# Altium footprint library PAL.PcbLib: 271 footprints (part 3 of 17)
Each footprint in its own frame and in the unit in brackets; x right, y up, seen from the top. Pads: shape width x height; smd on the part's side, far side on the other; paste and mask are expansions set on the pad; w line width, h text height; cw(c..) or ccw(c..) is an arc to the next point about the centre after c.
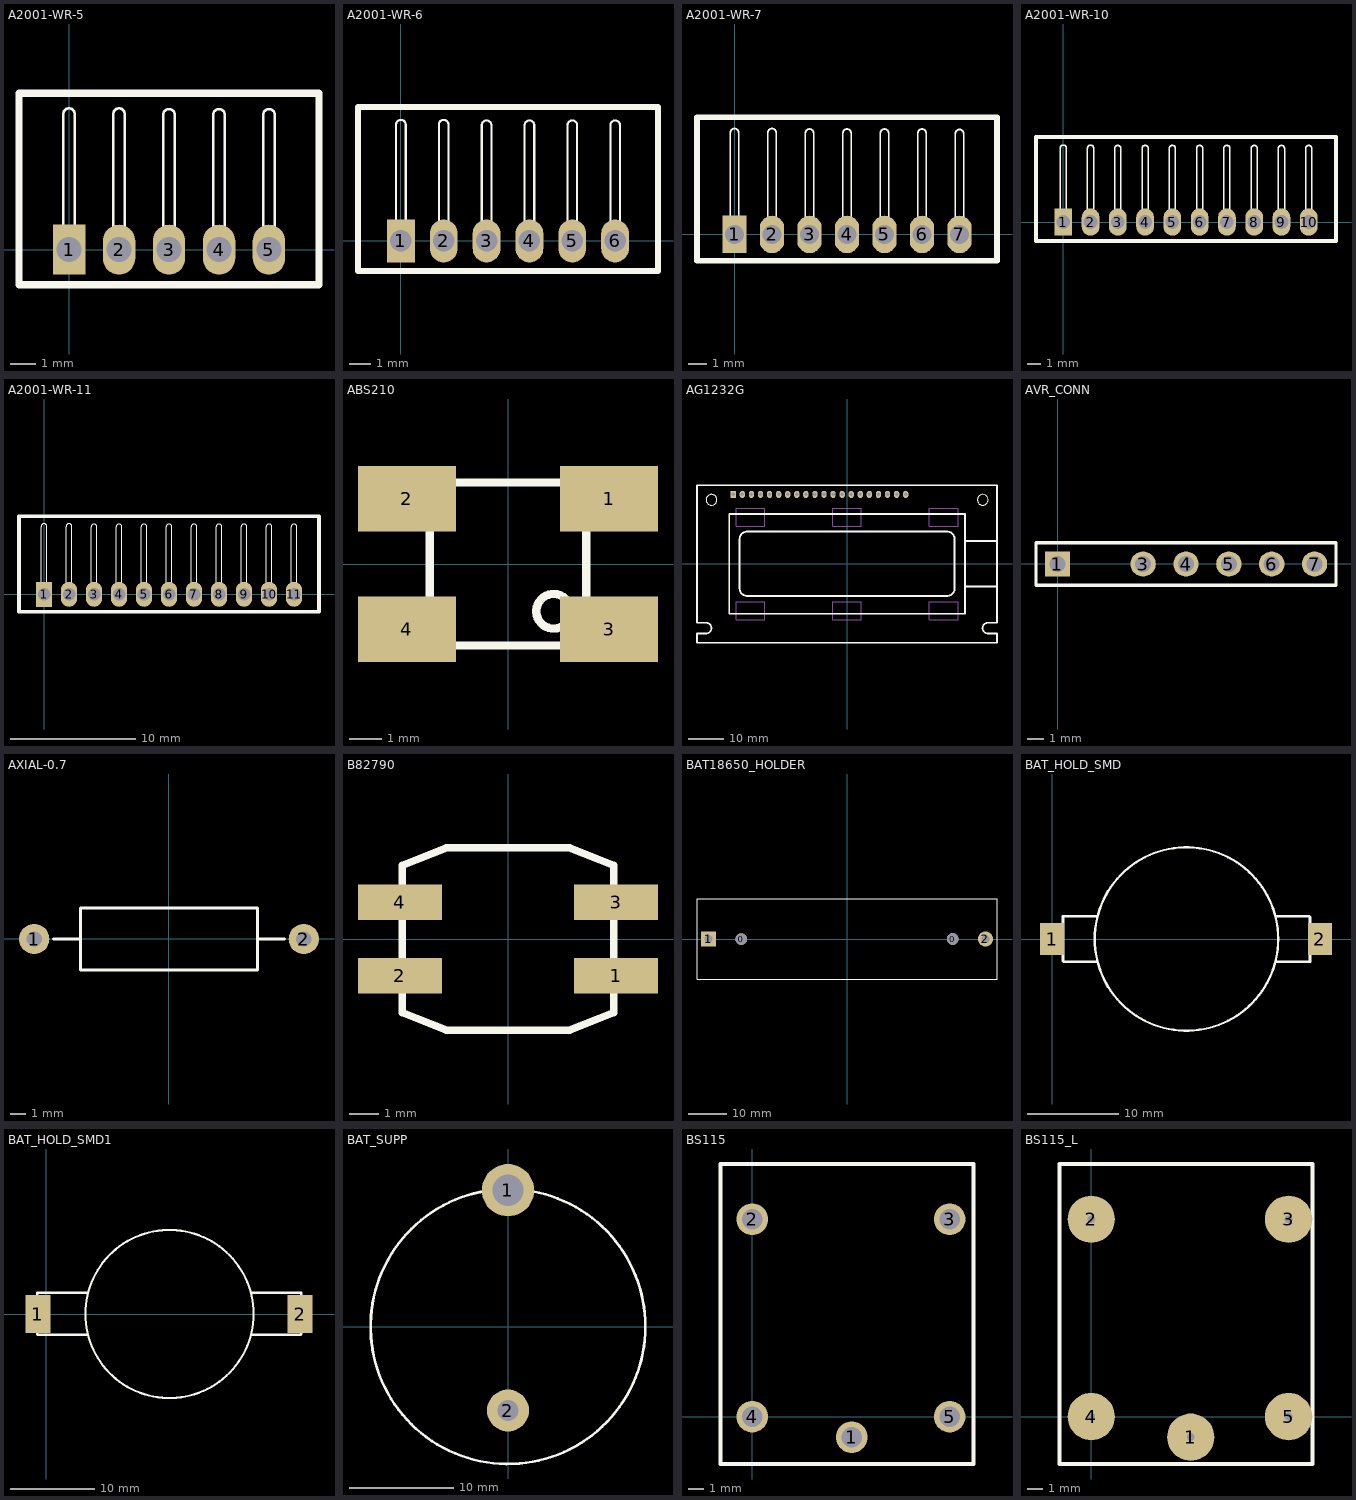
[diagram p2: the footprints below, top view; thin cyan lines are the x and y axes]

## A2001-WR-5 [mm]
pads (5):
  rect 1.3x2 on Top hole 1: 1(0,0)
  oval 1.3x2 on Top hole 1: 2(2,0) 3(4,0) 4(6,0) 5(8,0)
Top Overlay:
  lines w0.1: -0.225,0.025 -0.225,5.425 cw(c0,5.425) 0,5.65 cw(c0,5.425) 0.225,5.425 0.225,0.025 ccw(c0.25,0.025) 0.25,0 ; 1.775,0.025 1.775,5.425 cw(c2,5.425) 2,5.65 cw(c2,5.425) 2.225,5.425 2.225,0.025 ; 3.775,0 3.775,5.4 cw(c4,5.4) 4,5.625 cw(c4,5.4) 4.225,5.4 4.225,0 ; 5.775,0 5.775,5.4 cw(c6,5.4) 6,5.625 cw(c6,5.4) 6.225,5.4 6.225,0 ; 7.775,0 7.775,5.4 cw(c8,5.4) 8,5.625 cw(c8,5.4) 8.225,5.4 8.225,0
  lines w0.3: -2,-1.4 -2,6.25 10,6.25 10,-1.4 -2,-1.4

## A2001-WR-6 [mm]
pads (6):
  rect 1.3x2 on Top hole 1: 1(0,0)
  oval 1.3x2 on Top hole 1: 2(2,0) 3(4,0) 4(6,0) 5(8,0) 6(10,0)
Top Overlay:
  lines w0.1: -0.225,0.025 -0.225,5.425 cw(c0,5.425) 0,5.65 cw(c0,5.425) 0.225,5.425 0.225,0.025 ccw(c0.25,0.025) 0.25,0 ; 1.775,0.025 1.775,5.425 cw(c2,5.425) 2,5.65 cw(c2,5.425) 2.225,5.425 2.225,0.025 ; 3.775,0 3.775,5.4 cw(c4,5.4) 4,5.625 cw(c4,5.4) 4.225,5.4 4.225,0 ; 5.775,0 5.775,5.4 cw(c6,5.4) 6,5.625 cw(c6,5.4) 6.225,5.4 6.225,0 ; 7.775,0 7.775,5.4 cw(c8,5.4) 8,5.625 cw(c8,5.4) 8.225,5.4 8.225,0 ; 9.775,0 9.775,5.4 cw(c10,5.4) 10,5.625 cw(c10,5.4) 10.225,5.4 10.225,0
  lines w0.3: -2,-1.4 12,-1.4 12,6.25 -2,6.25 -2,-1.4

## A2001-WR-7 [mm]
pads (7):
  rect 1.3x2 on Top hole 1: 1(0,0)
  oval 1.3x2 on Top hole 1: 2(2,0) 3(4,0) 4(6,0) 5(8,0) 6(10,0) 7(12,0)
Top Overlay:
  lines w0.1: -0.225,0.025 -0.225,5.425 cw(c0,5.425) 0,5.65 cw(c0,5.425) 0.225,5.425 0.225,0.025 ccw(c0.25,0.025) 0.25,0 ; 1.775,0.025 1.775,5.425 cw(c2,5.425) 2,5.65 cw(c2,5.425) 2.225,5.425 2.225,0.025 ; 3.775,0 3.775,5.4 cw(c4,5.4) 4,5.625 cw(c4,5.4) 4.225,5.4 4.225,0 ; 5.775,0 5.775,5.4 cw(c6,5.4) 6,5.625 cw(c6,5.4) 6.225,5.4 6.225,0 ; 7.775,0 7.775,5.4 cw(c8,5.4) 8,5.625 cw(c8,5.4) 8.225,5.4 8.225,0 ; 9.775,0 9.775,5.4 cw(c10,5.4) 10,5.625 cw(c10,5.4) 10.225,5.4 10.225,0 ; 11.775,-0.025 11.775,5.375 cw(c12,5.375) 12,5.6 cw(c12,5.375) 12.225,5.375 12.225,-0.025
  lines w0.3: -2,-1.4 -2,6.25 14,6.25 14,-1.4 -2,-1.4

## A2001-WR-10 [mm]
pads (10):
  rect 1.3x2 on Top hole 1: 1(0,0)
  oval 1.3x2 on Top hole 1: 2(2,0) 3(4,0) 4(6,0) 5(8,0) 6(10,0) 7(12,0) 8(14,0) 9(16,0) 10(18,0)
Top Overlay:
  lines w0.1: -0.225,0.025 -0.225,5.425 cw(c0,5.425) 0,5.65 cw(c0,5.425) 0.225,5.425 0.225,0.025 ccw(c0.25,0.025) 0.25,0 ; 1.775,0.025 1.775,5.425 cw(c2,5.425) 2,5.65 cw(c2,5.425) 2.225,5.425 2.225,0.025 ; 3.775,0 3.775,5.4 cw(c4,5.4) 4,5.625 cw(c4,5.4) 4.225,5.4 4.225,0 ; 5.775,0 5.775,5.4 cw(c6,5.4) 6,5.625 cw(c6,5.4) 6.225,5.4 6.225,0 ; 7.775,0 7.775,5.4 cw(c8,5.4) 8,5.625 cw(c8,5.4) 8.225,5.4 8.225,0 ; 9.775,0 9.775,5.4 cw(c10,5.4) 10,5.625 cw(c10,5.4) 10.225,5.4 10.225,0 ; 11.775,0 11.775,5.4 cw(c12,5.4) 12,5.625 cw(c12,5.4) 12.225,5.4 12.225,0 ; 13.775,0 13.775,5.4 cw(c14,5.4) 14,5.625 cw(c14,5.4) 14.225,5.4 14.225,0 ; 15.775,0 15.775,5.4 cw(c16,5.4) 16,5.625 cw(c16,5.4) 16.225,5.4 16.225,0 ; 17.775,0 17.775,5.4 cw(c18,5.4) 18,5.625 cw(c18,5.4) 18.225,5.4 18.225,0
  lines w0.3: -2,-1.4 -2,6.25 20,6.25 20,-1.4 -2,-1.4

## A2001-WR-11 [mm]
pads (11):
  rect 1.3x2 on Top hole 1: 1(0,0)
  oval 1.3x2 on Top hole 1: 2(2,0) 3(4,0) 4(6,0) 5(8,0) 6(10,0) 7(12,0) 8(14,0) 9(16,0) 10(18,0) 11(20,0)
Top Overlay:
  lines w0.1: -0.225,0.025 -0.225,5.425 cw(c0,5.425) 0,5.65 cw(c0,5.425) 0.225,5.425 0.225,0.025 ccw(c0.25,0.025) 0.25,0 ; 1.775,0.025 1.775,5.425 cw(c2,5.425) 2,5.65 cw(c2,5.425) 2.225,5.425 2.225,0.025 ; 3.775,0 3.775,5.4 cw(c4,5.4) 4,5.625 cw(c4,5.4) 4.225,5.4 4.225,0 ; 5.775,0 5.775,5.4 cw(c6,5.4) 6,5.625 cw(c6,5.4) 6.225,5.4 6.225,0 ; 7.775,0 7.775,5.4 cw(c8,5.4) 8,5.625 cw(c8,5.4) 8.225,5.4 8.225,0 ; 9.775,0 9.775,5.4 cw(c10,5.4) 10,5.625 cw(c10,5.4) 10.225,5.4 10.225,0 ; 11.775,0 11.775,5.4 cw(c12,5.4) 12,5.625 cw(c12,5.4) 12.225,5.4 12.225,0 ; 13.775,0 13.775,5.4 cw(c14,5.4) 14,5.625 cw(c14,5.4) 14.225,5.4 14.225,0 ; 15.775,0 15.775,5.4 cw(c16,5.4) 16,5.625 cw(c16,5.4) 16.225,5.4 16.225,0 ; 17.775,0 17.775,5.4 cw(c18,5.4) 18,5.625 cw(c18,5.4) 18.225,5.4 18.225,0 ; 19.775,0 19.775,5.4 cw(c20,5.4) 20,5.625 cw(c20,5.4) 20.225,5.4 20.225,0
  lines w0.3: -2,-1.4 22,-1.4 22,6.25 -2,6.25 -2,-1.4

## ABS210 [mm]
pads (4):
  rect 3x2 smd: 1(3.1,2) 2(-3.1,2) 3(3.1,-2) 4(-3.1,-2)
Top Overlay:
  circle w0.254: c1.4,-1.45 r0.532
  lines w0.254: -2.4,-2.5 -2.4,0 -2.4,2.5 0,2.5 2.4,2.5 2.4,0 2.4,-2.5 0,-2.5 -2.4,-2.5

## AG1232G [mm]
pads (20):
  rect 1.5x2 on Top hole 1: 1(-31.872,19.422)
  oval 1.5x2 on Top hole 1: 2(-29.332,19.422) 3(-26.792,19.422) 4(-24.252,19.422) 5(-21.712,19.422) 6(-19.172,19.422) 7(-16.632,19.422) 8(-14.092,19.422) 9(-11.552,19.422) 10(-9.012,19.422) 11(-6.472,19.422) 12(-3.932,19.422) 13(-1.392,19.422) 14(1.148,19.422) 15(3.688,19.422) 16(6.228,19.422) 17(8.768,19.422) 18(11.308,19.422) 19(13.848,19.422) 20(16.388,19.422)
Top Overlay:
  circle w0.5: c-27.935,-9.026 r0
  circle w0.254: c37.978,17.898 r1.5
  circle w0.254: c-37.968,17.898 r1.5
  lines w0.48: -39.492,-19.543 ccw(c-39.492,-18.043) -39.492,-16.543 ; 39.428,-19.543 cw(c39.428,-18.043) 39.428,-16.543
  lines w0.5: -42.008,-19.543 -42.032,-19.567 ; -39.516,-19.567 -42.032,-19.567 ; -39.492,-16.543 -42.008,-16.543 -42.032,-16.519 -42.032,21.962 41.915,21.962 41.968,21.909 ; 33.025,-6.359 41.968,-6.359 ; 33.025,6.341 41.968,6.341 ; 39.428,-16.543 41.944,-16.543 ; 39.452,-19.567 41.968,-19.567 41.968,-22.107 -42.032,-22.107 -42.032,-19.567 ; 41.968,-16.519 41.968,21.962 ; -33.015,-13.979 -33.015,-0.009 -33.015,13.961 0.005,13.961 33.025,13.961 33.025,-0.009 33.025,-13.979 0.005,-13.979 -33.015,-13.979 ; -30.094,-6.994 ccw(c-27.998,-6.93) -27.935,-9.026 0.005,-9.026 27.945,-9.026 ccw(c28.009,-6.93) 30.104,-6.994 30.104,-0.009 30.104,6.976 ccw(c28.009,6.913) 27.945,9.008 0.005,9.008 -27.935,9.008 ccw(c-27.998,6.913) -30.094,6.976 -30.094,-0.009 -30.094,-6.994
Mechanical 1:
  lines w0.3: -3.993,10.537 4.007,10.537 ; -3.993,10.537 -3.993,15.537 ; -3.993,10.537 4.007,10.537 ; -3.993,10.537 -3.993,15.537 ; -3.993,15.537 4.007,15.537 ; -3.993,15.537 4.007,15.537 ; 4.007,10.537 4.007,15.537 ; 4.007,10.537 4.007,15.537 ; -31.044,-15.625 -23.044,-15.625 -23.044,-10.625 -31.044,-10.625 -31.044,-15.625 ; -31.044,10.537 -23.044,10.537 -23.044,15.537 -31.044,15.537 -31.044,10.537 ; -3.993,-15.625 4.007,-15.625 4.007,-10.625 -3.993,-10.625 -3.993,-15.625 ; 23.058,-15.625 31.058,-15.625 31.058,-10.625 23.058,-10.625 23.058,-15.625 ; 23.058,10.537 31.058,10.537 31.058,15.537 23.058,15.537 23.058,10.537

## AVR_CONN [mm]
pads (6):
  rect 1.5x1.5 on Top hole 0.95: 1(-0.007,-0.001)
  round 1.5 on Top hole 0.95: 3(5.073,-0.001) 4(7.613,-0.001) 5(10.153,-0.001) 6(12.693,-0.001) 7(15.233,-0.001)
Top Overlay:
  lines w0.2: -1.277,-1.271 16.503,-1.271 16.503,1.269 -1.277,1.269 -1.277,-1.271

## AXIAL-0.7 [mm]
pads (2):
  round 2 on Top hole 1: 1(-8.887,-0.008) 2(8.893,-0.008)
Top Overlay:
  lines w0.2: -7.617,-0.008 -5.839,-0.008 ; 5.845,-0.008 7.623,-0.008 ; -5.839,-2.04 5.845,-2.04 5.845,2.024 -5.839,2.024 -5.839,-2.04

## B82790 [mm]
pads (4):
  rect 2.85x1.2 smd: 1(3.675,-1.25) 2(-3.675,-1.25) 3(3.675,1.25) 4(-3.675,1.25)
Top Overlay:
  lines w0.254: -3.6,-2.5 -2.1,-3.1 0,-3.1 2.1,-3.1 3.6,-2.5 3.6,0 3.6,2.5 2.1,3.1 0,3.1 -2.1,3.1 -3.6,2.5 -3.6,0 -3.6,-2.5

## BAT18650_HOLDER [mm]
pads (4):
  round 3 on Top hole 3: 0(-27.5,-0.025) 0(27.5,0)
  rect 4x4 on Top hole 2: 1(-36,0)
  round 4 on Top hole 2: 2(36,0)
Top Overlay:
  lines w0.3: -39,-10.5 -39,10.5 39,10.5 39,-10.5 -39,-10.5

## BAT_HOLD_SMD [mm]
pads (2):
  rect 2.6x3.5 smd: 1(0,0) 2(29.3,0)
Top Overlay:
  circle w0.254: c14.7,0 r10.032
  lines w0.3: 4.95,-2.5 1.3,-2.5 1.2,-2.4 1.2,2.475 1.225,2.5 4.95,2.5 ; 24.45,-2.5 28.175,-2.5 ; 24.45,2.5 28.1,2.5 ; 28.2,-2.475 28.2,2.4

## BAT_HOLD_SMD1 [mm]
pads (2):
  rect 3x4.5 smd: 1(-1,0) 2(30.3,0)
Top Overlay:
  circle w0.254: c14.7,0 r10.032
  lines w0.3: 4.85,-2.475 -1,-2.475 -1.1,-2.375 -1.1,0.05 -1.1,2.5 -1.075,2.525 4.85,2.525 ; 24.5,-2.475 30.35,-2.475 ; 24.5,2.525 30.425,2.525 ; 30.45,-2.375 30.45,0.05 30.45,2.5

## BAT_SUPP [mm]
pads (2):
  round 5 on Top hole 3: 1(-0.009,12.995)
  round 4 on Top hole 2: 2(-0.009,-8.005)
Top Overlay:
  circle w0.254: c-0.009,-0.005 r13.1

## BS115 [mm]
pads (5):
  round 2 on Top hole 1.3: 1(6.292,-1.304) 2(-0.008,12.496) 3(12.492,12.496) 4(-0.008,-0.004) 5(12.492,-0.004)
Top Overlay:
  lines w0.254: -2.008,-3.004 -2.008,15.996 13.992,15.996 13.992,-3.004 6.292,-3.004 -2.008,-3.004

## BS115_L [mm]
pads (5):
  round 3 on Top hole 0.5: 1(6.292,-1.304) 2(-0.008,12.496) 3(12.492,12.496) 4(-0.008,-0.004) 5(12.492,-0.004)
Top Overlay:
  lines w0.254: -2.008,-3.004 -2.008,15.996 13.992,15.996 13.992,-3.004 6.292,-3.004 -2.008,-3.004